# Altium schematic symbol library MIC2937A-12WU-TR.SchLib: 2 symbols
Pins are listed as number, name and electrical type; pins without a type are passive.

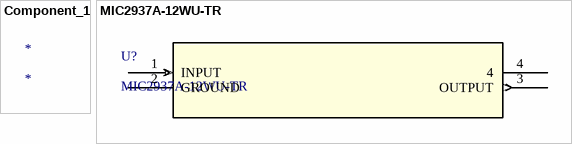
[diagram p0: symbols Component_1 to MIC2937A-12WU-TR]

## Component_1
designator *

## MIC2937A-12WU-TR
designator U?
No Description Available; Mfr_Name: Microchip; Copyright: Copyright (C) 2021 Ultra Librarian. All rights reserved.; Manufacturer_Part_Number: MIC2937A-12WU-TR; RefDes: RefDes; Type: DEV
footprint TO-263-3_MCH
pins: 1 INPUT (in), 2 GROUND (power), 3 OUTPUT (out), 4